# Altium footprint library SRV05-4MR6T1G.PcbLib: 1 footprints
Each footprint in its own frame and in the unit in brackets; x right, y up, seen from the top. Pads: shape width x height; smd on the part's side, far side on the other; paste and mask are expansions set on the pad; w line width, h text height; cw(c..) or ccw(c..) is an arc to the next point about the centre after c.
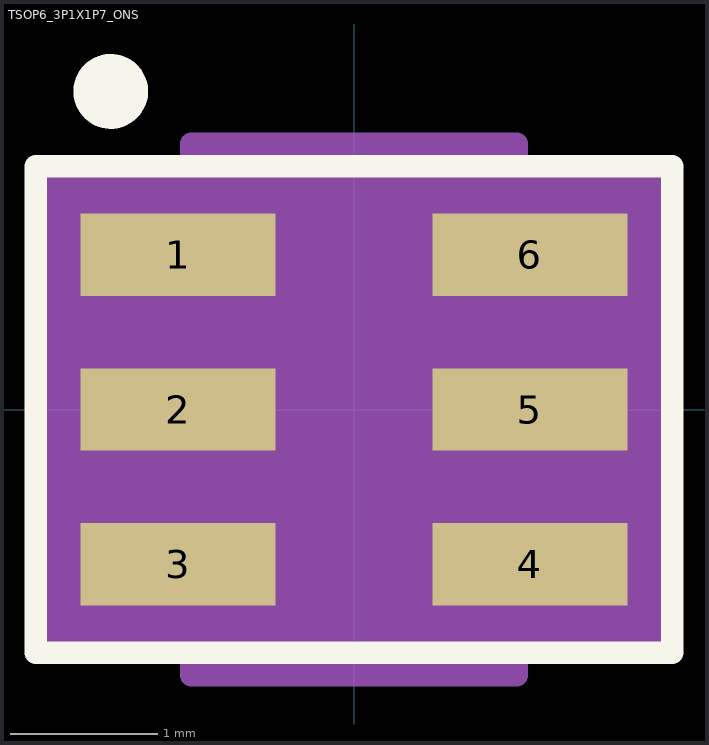
[diagram p0: the footprint, top view; thin cyan lines are the x and y axes]

## TSOP6_3P1X1P7_ONS [mil]
pads (6):
  rect 52x22 smd paste+0 mask+0: 1(-47,41.34) 2(-47,0) 3(-47,-41.34) 4(47,-41.34) 5(47,0) 6(47,41.34)
Top Overlay:
  circle w10: c-65,85 r5
  lines w6: -85,-65 -85,65 85,65 85,-65 -85,-65
Mechanical 13:
  lines w0: -12,61 ccw(c0,61) 12,61
  lines w1: -59,-51.34 -59,-31.34 -33.5,-31.34 -33.5,-51.34 -59,-51.34 ; -59,-10 -59,10 -33.5,10 -33.5,-10 -59,-10 ; -59,31.34 -59,51.34 -33.5,51.34 -33.5,31.34 -59,31.34 ; -33.5,-61 33.5,-61 33.5,61 -33.5,61 -33.5,-61 ; 33.5,-51.34 33.5,-31.34 59,-31.34 59,-51.34 33.5,-51.34 ; 33.5,-10 33.5,10 59,10 59,-10 33.5,-10 ; 33.5,31.34 33.5,51.34 59,51.34 59,31.34 33.5,31.34
Mechanical 15:
  region: -43.5,-62.34 -83,-62.34 -83,62.34 -43.5,62.34 -43.5,71 43.5,71 43.5,62.34 83,62.34 83,-62.34 43.5,-62.34 43.5,-71 -43.5,-71
  lines w6: -83,-62.34 -83,62.34 -43.5,62.34 -43.5,71 43.5,71 43.5,62.34 83,62.34 83,-62.34 43.5,-62.34 43.5,-71 -43.5,-71 -43.5,-62.34 -83,-62.34
3D body "SRV05-4MR6T1G.step": height 43.11, standoff 0, extent -59.02,-60.98 59.02,60.98